# Altium integrated library NXP Semiconductors Automotive MOSFETs.IntLib: 540 symbols (part 6 of 16)
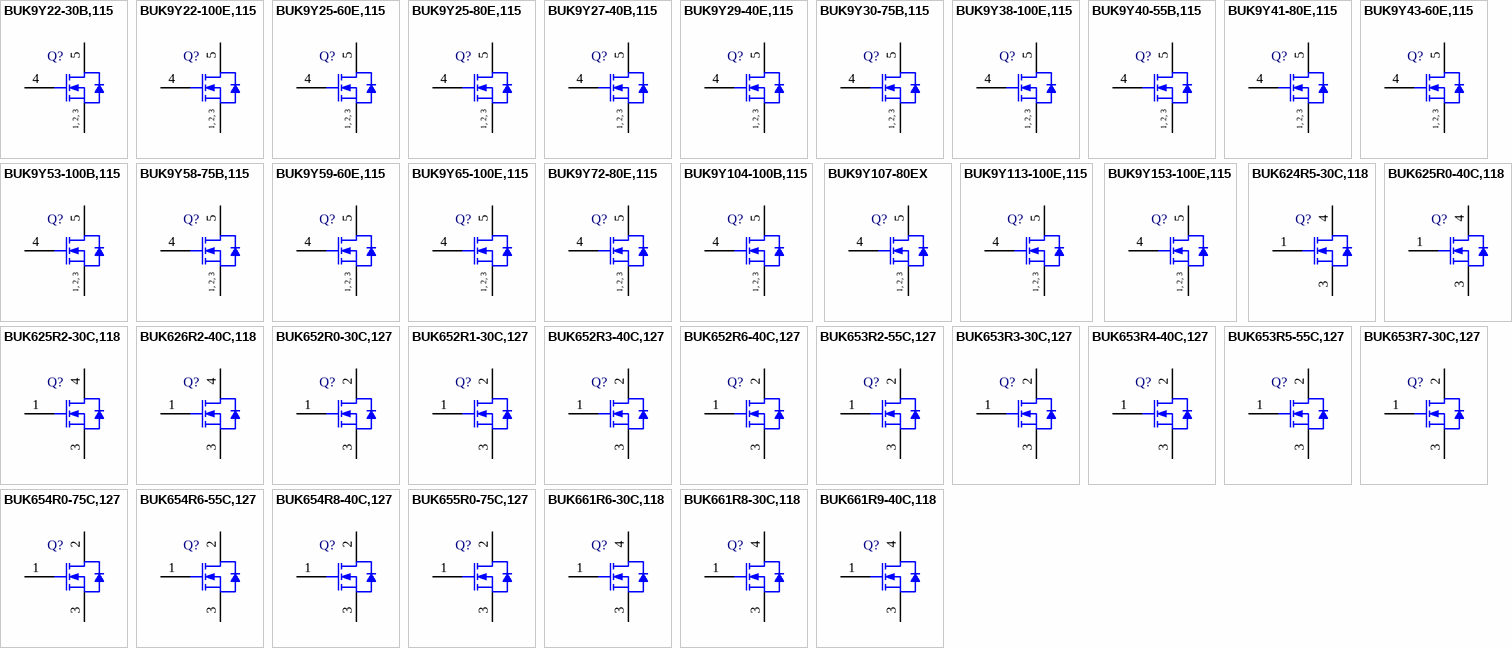
[diagram p19: symbols BUK9Y22-30B,115 to BUK661R9-40C,118]

## BUK9Y53-100B,115
designator Q?
N-Channel TrenchMOS Logic Level FET, 100 V, 23 A, 5-Pin SOT669, Tape and Reel; Manufacturer: NXP Semiconductors; PartNumber: BUK9Y53-100B,115; Automotive Qualified: Y; Channel Type: N; ID [max] (A): 23; IDM [max] (A): 94; Packing: Tape & Reel; Qr [typ] (nC): 83; VDS [max] (V): 100; VGSth [typ] (V): 1.5; DatasheetVersion: Rev. 01; PackageVersion: 13-02-27, 02/2013; PackageReference: SOT669; PackageDescription: 4-Pin Plastic Single-ended Surface Mounted Package, Body 4.9 x 3.95 mm, Pitch 1.27 mm; Supplier 1: Digi-Key; Supplier Part Number 1: 568-6238-2-ND; Supplier 2: Digi-Key; Supplier Part Number 2: 568-6238-1-ND; Supplier 3: Digi-Key; Supplier Part Number 3: 568-6238-6-ND; Supplier 4: Newark; Supplier Part Number 4: 79R1857; Supplier 5: Mouser; Supplier Part Number 5: 771-BUK9Y53-100B,115; Mounting Technology: Surface Mount; Code_JEDEC: MO-235; ComponentLink1Description: Manufacturer URL; ComponentLink1URL: http://www.nxp.com/; ComponentLink2Description: Datasheet; ComponentLink2URL: http://www.nxp.com/documents/data_sheet/BUK9Y53-100B.pdf; ComponentLink3Description: Package Specification; ComponentLink3URL: http://www.nxp.com/documents/outline_drawing/sot669_po.pdf
footprint NXP-SOT669_N (DPAK, 4-Leads, Body 5x4.1mm, Pitch 1.27mm, IPC Medium Density)
footprint NXP-SOT669_L (DPAK, 4-Leads, Body 5x4.1mm, Pitch 1.27mm, IPC High Density)
footprint NXP-SOT669_M (DPAK, 4-Leads, Body 5x4.1mm, Pitch 1.27mm, IPC Low Density)
pins: 1 S "source", 2 S "source", 3 S "source", 4 G "gate", 5 D "mounting base; connected to drain"
text: 1, 2, 3

## BUK9Y58-75B,115
designator Q?
N-Channel TrenchMOS Logic Level FET, 75 V, 20.73 A, 5-Pin SOT669, Tape and Reel; Manufacturer: NXP Semiconductors; PartNumber: BUK9Y58-75B,115; Automotive Qualified: Y; Channel Type: N; ID [max] (A): 20.73; IDM [max] (A): 82.9; Packing: Tape & Reel; Qr [typ] (nC): 122; VDS [max] (V): 75; VGSth [typ] (V): 1.65; DatasheetVersion: Rev. 04; PackageVersion: 13-02-27, 02/2013; PackageReference: SOT669; PackageDescription: 4-Pin Plastic Single-ended Surface Mounted Package, Body 4.9 x 3.95 mm, Pitch 1.27 mm; Supplier 1: Digi-Key; Supplier Part Number 1: 568-5529-2-ND; Supplier 2: Digi-Key; Supplier Part Number 2: 568-5529-1-ND; Supplier 3: Digi-Key; Supplier Part Number 3: 568-5529-6-ND; Supplier 4: Mouser; Supplier Part Number 4: 771-BUK9Y58-75B115; Mounting Technology: Surface Mount; Code_JEDEC: MO-235; ComponentLink1Description: Manufacturer URL; ComponentLink1URL: http://www.nxp.com/; ComponentLink2Description: Datasheet; ComponentLink2URL: http://www.nxp.com/documents/data_sheet/BUK9Y58-75B.pdf; ComponentLink3Description: Package Specification; ComponentLink3URL: http://www.nxp.com/documents/outline_drawing/sot669_po.pdf
footprint NXP-SOT669_N (DPAK, 4-Leads, Body 5x4.1mm, Pitch 1.27mm, IPC Medium Density)
footprint NXP-SOT669_L (DPAK, 4-Leads, Body 5x4.1mm, Pitch 1.27mm, IPC High Density)
footprint NXP-SOT669_M (DPAK, 4-Leads, Body 5x4.1mm, Pitch 1.27mm, IPC Low Density)
pins: 1 S "source", 2 S "source", 3 S "source", 4 G "gate", 5 D "mounting base; connected to drain"
text: 1, 2, 3

## BUK9Y59-60E,115
designator Q?
N-Channel Logic Level MOSFET, 60 V, 16.7 A, 5-Pin SOT669, Tape and Reel; Manufacturer: NXP Semiconductors; PartNumber: BUK9Y59-60E,115; Automotive Qualified: Y; Channel Type: N; ID [max] (A): 16.7; IDM [max] (A): 67; Packing: Tape & Reel; Qr [typ] (nC): 13; VDS [max] (V): 60; VGSth [typ] (V): 1.7; PackageVersion: 13-02-27, 02/2013; PackageReference: SOT669; PackageDescription: 4-Pin Plastic Single-ended Surface Mounted Package, Body 4.9 x 3.95 mm, Pitch 1.27 mm; Supplier 1: Digi-Key; Supplier Part Number 1: 568-11426-2-ND; Supplier 2: Digi-Key; Supplier Part Number 2: 568-11426-1-ND; Supplier 3: Digi-Key; Supplier Part Number 3: 568-11426-6-ND; Supplier 4: Mouser; Supplier Part Number 4: 771-BUK9Y59-60E115; Mounting Technology: Surface Mount; Code_JEDEC: MO-235; ComponentLink1Description: Manufacturer URL; ComponentLink1URL: http://www.nxp.com/; ComponentLink2Description: Datasheet; ComponentLink2URL: http://www.nxp.com/documents/data_sheet/BUK9Y59-60E.pdf; ComponentLink3Description: Package Specification; ComponentLink3URL: http://www.nxp.com/documents/outline_drawing/sot669_po.pdf
footprint NXP-SOT669_N (DPAK, 4-Leads, Body 5x4.1mm, Pitch 1.27mm, IPC Medium Density)
footprint NXP-SOT669_L (DPAK, 4-Leads, Body 5x4.1mm, Pitch 1.27mm, IPC High Density)
footprint NXP-SOT669_M (DPAK, 4-Leads, Body 5x4.1mm, Pitch 1.27mm, IPC Low Density)
pins: 1 S "source", 2 S "source", 3 S "source", 4 G "gate", 5 D "mounting base; connected to drain"
text: 1, 2, 3

## BUK9Y65-100E,115
designator Q?
N-Channel Logic Level MOSFET, 100 V, 19 A, 5-Pin SOT669, Tape and Reel; Manufacturer: NXP Semiconductors; PartNumber: BUK9Y65-100E,115; Automotive Qualified: Y; Channel Type: N; ID [max] (A): 19; IDM [max] (A): 76; Packing: Tape & Reel; Qr [typ] (nC): 33; VDS [max] (V): 100; VGSth [typ] (V): 1.7; PackageVersion: 13-02-27, 02/2013; PackageReference: SOT669; PackageDescription: 4-Pin Plastic Single-ended Surface Mounted Package, Body 4.9 x 3.95 mm, Pitch 1.27 mm; Supplier 1: Digi-Key; Supplier Part Number 1: 568-10280-2-ND; Supplier 2: Digi-Key; Supplier Part Number 2: 568-10280-1-ND; Supplier 3: Digi-Key; Supplier Part Number 3: 568-10280-6-ND; Supplier 4: Mouser; Supplier Part Number 4: 771-BUK9Y65-100E115; Mounting Technology: Surface Mount; Code_JEDEC: MO-235; ComponentLink1Description: Manufacturer URL; ComponentLink1URL: http://www.nxp.com/; ComponentLink2Description: Datasheet; ComponentLink2URL: http://www.nxp.com/documents/data_sheet/BUK9Y65-100E.pdf; ComponentLink3Description: Package Specification; ComponentLink3URL: http://www.nxp.com/documents/outline_drawing/sot669_po.pdf
footprint NXP-SOT669_N (DPAK, 4-Leads, Body 5x4.1mm, Pitch 1.27mm, IPC Medium Density)
footprint NXP-SOT669_L (DPAK, 4-Leads, Body 5x4.1mm, Pitch 1.27mm, IPC High Density)
footprint NXP-SOT669_M (DPAK, 4-Leads, Body 5x4.1mm, Pitch 1.27mm, IPC Low Density)
pins: 1 S "source", 2 S "source", 3 S "source", 4 G "gate", 5 D "mounting base; connected to drain"
text: 1, 2, 3

## BUK9Y72-80E,115
designator Q?
N-Channel Logic Level MOSFET, 80 V, 15 A, 5-Pin SOT669, Tape and Reel; Manufacturer: NXP Semiconductors; PartNumber: BUK9Y72-80E,115; Automotive Qualified: Y; Channel Type: N; ID [max] (A): 15; IDM [max] (A): 61; Packing: Tape & Reel; Qr [typ] (nC): 15.3; VDS [max] (V): 80; VGSth [typ] (V): 1.7; PackageVersion: 13-02-27, 02/2013; PackageReference: SOT669; PackageDescription: 4-Pin Plastic Single-ended Surface Mounted Package, Body 4.9 x 3.95 mm, Pitch 1.27 mm; Supplier 1: Digi-Key; Supplier Part Number 1: 568-11427-2-ND; Supplier 2: Digi-Key; Supplier Part Number 2: 568-11427-1-ND; Supplier 3: Digi-Key; Supplier Part Number 3: 568-11427-6-ND; Supplier 4: Mouser; Supplier Part Number 4: 771-BUK9Y72-80E115; Mounting Technology: Surface Mount; Code_JEDEC: MO-235; ComponentLink1Description: Manufacturer URL; ComponentLink1URL: http://www.nxp.com/; ComponentLink2Description: Datasheet; ComponentLink2URL: http://www.nxp.com/documents/data_sheet/BUK9Y72-80E.pdf; ComponentLink3Description: Package Specification; ComponentLink3URL: http://www.nxp.com/documents/outline_drawing/sot669_po.pdf
footprint NXP-SOT669_N (DPAK, 4-Leads, Body 5x4.1mm, Pitch 1.27mm, IPC Medium Density)
footprint NXP-SOT669_L (DPAK, 4-Leads, Body 5x4.1mm, Pitch 1.27mm, IPC High Density)
footprint NXP-SOT669_M (DPAK, 4-Leads, Body 5x4.1mm, Pitch 1.27mm, IPC Low Density)
pins: 1 S "source", 2 S "source", 3 S "source", 4 G "gate", 5 D "mounting base; connected to drain"
text: 1, 2, 3

## BUK9Y104-100B,115
designator Q?
N-Channel TrenchMOS Logic Level FET, 100 V, 14.8 A, 5-Pin SOT669, Tape and Reel; Manufacturer: NXP Semiconductors; PartNumber: BUK9Y104-100B,115; Automotive Qualified: Y; Channel Type: N; ID [max] (A): 14.8; IDM [max] (A): 59; Packing: Tape & Reel; Qr [typ] (nC): 190; VDS [max] (V): 100; VGSth [typ] (V): 1.65; DatasheetVersion: Rev. 04; PackageVersion: 13-02-27, 02/2013; PackageReference: SOT669; PackageDescription: 4-Pin Plastic Single-ended Surface Mounted Package, Body 4.9 x 3.95 mm, Pitch 1.27 mm; Supplier 1: Digi-Key; Supplier Part Number 1: 568-5524-2-ND; Supplier 2: Digi-Key; Supplier Part Number 2: 568-5524-1-ND; Supplier 3: Digi-Key; Supplier Part Number 3: 568-5524-6-ND; Supplier 4: Mouser; Supplier Part Number 4: 771-BUK9Y104-100B115; Mounting Technology: Surface Mount; Code_JEDEC: MO-235; ComponentLink1Description: Manufacturer URL; ComponentLink1URL: http://www.nxp.com/; ComponentLink2Description: Datasheet; ComponentLink2URL: http://www.nxp.com/documents/data_sheet/BUK9Y104-100B.pdf; ComponentLink3Description: Package Specification; ComponentLink3URL: http://www.nxp.com/documents/outline_drawing/sot669_po.pdf
footprint NXP-SOT669_N (DPAK, 4-Leads, Body 5x4.1mm, Pitch 1.27mm, IPC Medium Density)
footprint NXP-SOT669_L (DPAK, 4-Leads, Body 5x4.1mm, Pitch 1.27mm, IPC High Density)
footprint NXP-SOT669_M (DPAK, 4-Leads, Body 5x4.1mm, Pitch 1.27mm, IPC Low Density)
pins: 1 S "source", 2 S "source", 3 S "source", 4 G "gate", 5 D "mounting base; connected to drain"
text: 1, 2, 3

## BUK9Y107-80EX
designator Q?
N-Channel Logic Level MOSFET, 80 V, 11.8 A, 5-Pin SOT669, Tape and Reel; Manufacturer: NXP Semiconductors; PartNumber: BUK9Y107-80EX; Automotive Qualified: Y; Channel Type: N; ID [max] (A): 11.8; IDM [max] (A): 47; Packing: Tape & Reel; Qr [typ] (nC): 17.8; VDS [max] (V): 80; VGSth [typ] (V): 1.7; PackageVersion: 13-02-27, 02/2013; PackageReference: SOT669; PackageDescription: 4-Pin Plastic Single-ended Surface Mounted Package, Body 4.9 x 3.95 mm, Pitch 1.27 mm; Supplier 1: Digi-Key; Supplier Part Number 1: 568-10274-2-ND; Supplier 2: Digi-Key; Supplier Part Number 2: 568-10274-1-ND; Supplier 3: Digi-Key; Supplier Part Number 3: 568-10274-6-ND; Supplier 4: Mouser; Supplier Part Number 4: 771-BUK9Y107-80EX; Mounting Technology: Surface Mount; Code_JEDEC: MO-235; ComponentLink1Description: Manufacturer URL; ComponentLink1URL: http://www.nxp.com/; ComponentLink2Description: Datasheet; ComponentLink2URL: http://www.nxp.com/documents/data_sheet/BUK9Y107-80E.pdf; ComponentLink3Description: Package Specification; ComponentLink3URL: http://www.nxp.com/documents/outline_drawing/sot669_po.pdf
footprint NXP-SOT669_N (DPAK, 4-Leads, Body 5x4.1mm, Pitch 1.27mm, IPC Medium Density)
footprint NXP-SOT669_L (DPAK, 4-Leads, Body 5x4.1mm, Pitch 1.27mm, IPC High Density)
footprint NXP-SOT669_M (DPAK, 4-Leads, Body 5x4.1mm, Pitch 1.27mm, IPC Low Density)
pins: 1 S "source", 2 S "source", 3 S "source", 4 G "gate", 5 D "mounting base; connected to drain"
text: 1, 2, 3

## BUK9Y113-100E,115
designator Q?
N-Channel Logic Level MOSFET, 100 V, 12 A, 5-Pin SOT669, Tape and Reel; Manufacturer: NXP Semiconductors; PartNumber: BUK9Y113-100E,115; Automotive Qualified: Y; Channel Type: N; ID [max] (A): 12; IDM [max] (A): 48; Packing: Tape & Reel; Qr [typ] (nC): 29; VDS [max] (V): 100; VGSth [typ] (V): 1.7; PackageVersion: 13-02-27, 02/2013; PackageReference: SOT669; PackageDescription: 4-Pin Plastic Single-ended Surface Mounted Package, Body 4.9 x 3.95 mm, Pitch 1.27 mm; Supplier 1: Digi-Key; Supplier Part Number 1: 568-11545-2-ND; Supplier 2: Digi-Key; Supplier Part Number 2: 568-11545-1-ND; Supplier 3: Digi-Key; Supplier Part Number 3: 568-11545-6-ND; Supplier 4: Mouser; Supplier Part Number 4: 771-BUK9Y113-100E115; Mounting Technology: Surface Mount; Code_JEDEC: MO-235; ComponentLink1Description: Manufacturer URL; ComponentLink1URL: http://www.nxp.com/; ComponentLink2Description: Datasheet; ComponentLink2URL: http://www.nxp.com/documents/data_sheet/BUK9Y113-100E.pdf; ComponentLink3Description: Package Specification; ComponentLink3URL: http://www.nxp.com/documents/outline_drawing/sot669_po.pdf
footprint NXP-SOT669_N (DPAK, 4-Leads, Body 5x4.1mm, Pitch 1.27mm, IPC Medium Density)
footprint NXP-SOT669_L (DPAK, 4-Leads, Body 5x4.1mm, Pitch 1.27mm, IPC High Density)
footprint NXP-SOT669_M (DPAK, 4-Leads, Body 5x4.1mm, Pitch 1.27mm, IPC Low Density)
pins: 1 S "source", 2 S "source", 3 S "source", 4 G "gate", 5 D "mounting base; connected to drain"
text: 1, 2, 3

## BUK9Y153-100E,115
designator Q?
N-Channel Logic Level MOSFET, 100 V, 9.4 A, 5-Pin SOT669, Tape and Reel; Manufacturer: NXP Semiconductors; PartNumber: BUK9Y153-100E,115; Automotive Qualified: Y; Channel Type: N; ID [max] (A): 9.4; IDM [max] (A): 38; Packing: Tape & Reel; Qr [typ] (nC): 28; VDS [max] (V): 100; VGSth [typ] (V): 1.7; PackageVersion: 13-02-27, 02/2013; PackageReference: SOT669; PackageDescription: 4-Pin Plastic Single-ended Surface Mounted Package, Body 4.9 x 3.95 mm, Pitch 1.27 mm; Supplier 1: Digi-Key; Supplier Part Number 1: 568-10973-2-ND; Supplier 2: Digi-Key; Supplier Part Number 2: 568-10973-1-ND; Supplier 3: Digi-Key; Supplier Part Number 3: 568-10973-6-ND; Supplier 4: Mouser; Supplier Part Number 4: 771-BUK9Y153-100E115; Mounting Technology: Surface Mount; Code_JEDEC: MO-235; ComponentLink1Description: Manufacturer URL; ComponentLink1URL: http://www.nxp.com/; ComponentLink2Description: Datasheet; ComponentLink2URL: http://www.nxp.com/documents/data_sheet/BUK9Y153-100E.pdf; ComponentLink3Description: Package Specification; ComponentLink3URL: http://www.nxp.com/documents/outline_drawing/sot669_po.pdf
footprint NXP-SOT669_N (DPAK, 4-Leads, Body 5x4.1mm, Pitch 1.27mm, IPC Medium Density)
footprint NXP-SOT669_L (DPAK, 4-Leads, Body 5x4.1mm, Pitch 1.27mm, IPC High Density)
footprint NXP-SOT669_M (DPAK, 4-Leads, Body 5x4.1mm, Pitch 1.27mm, IPC Low Density)
pins: 1 S "source", 2 S "source", 3 S "source", 4 G "gate", 5 D "mounting base; connected to drain"
text: 1, 2, 3

## BUK624R5-30C,118
designator Q?
N-Channel TrenchMOS Intermediate Level FET, 30 V, 90 A, 3-Pin SOT428, Tape and Reel; Manufacturer: NXP Semiconductors; PartNumber: BUK624R5-30C,118; Automotive Qualified: Y; Channel Type: N; ID [max] (A): 90; IDM [max] (A): 543; Packing: Tape & Reel; Qr [typ] (nC): 57; VDS [max] (V): 30; VGSth [typ] (V): 2.3; DatasheetVersion: Rev. 2; PackageVersion: 14-06-10, 06/2014; PackageReference: SOT428; PackageDescription: 3-Pin Plastic Single-ended Surface Mounted Package, Body 6.1 x 6.6 mm, Pitch 2.285 mm; Supplier 1: Digi-Key; Supplier Part Number 1: 568-6991-2-ND; Supplier 2: Digi-Key; Supplier Part Number 2: 568-6991-1-ND; Supplier 3: Digi-Key; Supplier Part Number 3: 568-6991-6-ND; Supplier 4: Mouser; Supplier Part Number 4: 771-BUK624R530C118; Mounting Technology: Surface Mount; Code_JEITA: SC-63; Code_JEDEC: TO-252; ComponentLink1Description: Manufacturer URL; ComponentLink1URL: http://www.nxp.com/; ComponentLink2Description: Datasheet; ComponentLink2URL: http://www.nxp.com/documents/data_sheet/BUK624R5-30C.pdf; ComponentLink3Description: Package Specification; ComponentLink3URL: http://www.nxp.com/documents/outline_drawing/sot428_po.pdf
footprint NXP-SOT428_N (DPAK, 3-Leads, Body 6.75x6.22mm, Pitch 2.29mm, IPC Medium Density)
footprint NXP-SOT428_L (DPAK, 3-Leads, Body 6.75x6.22mm, Pitch 2.29mm, IPC High Density)
footprint NXP-SOT428_M (DPAK, 3-Leads, Body 6.75x6.22mm, Pitch 2.29mm, IPC Low Density)
pins: 1 G "gate", 3 S "source", 4 D "mounting base; connected to drain"

## BUK625R0-40C,118
designator Q?
N-Channel TrenchMOS Intermediate Level FET, 40 V, 90 A, 3-Pin SOT428, Tape and Reel; Manufacturer: NXP Semiconductors; PartNumber: BUK625R0-40C,118; Automotive Qualified: Y; Channel Type: N; ID [max] (A): 90; IDM [max] (A): 490; Packing: Tape & Reel; Qr [typ] (nC): 65; VDS [max] (V): 40; VGSth [typ] (V): 2.3; DatasheetVersion: Rev. 1; PackageVersion: 14-06-10, 06/2014; PackageReference: SOT428; PackageDescription: 3-Pin Plastic Single-ended Surface Mounted Package, Body 6.1 x 6.6 mm, Pitch 2.285 mm; Supplier 1: Digi-Key; Supplier Part Number 1: 568-6901-2-ND; Supplier 2: Digi-Key; Supplier Part Number 2: 568-6901-1-ND; Supplier 3: Digi-Key; Supplier Part Number 3: 568-6901-6-ND; Supplier 4: Mouser; Supplier Part Number 4: 771-BUK625R040C118; Mounting Technology: Surface Mount; Code_JEITA: SC-63; Code_JEDEC: TO-252; ComponentLink1Description: Manufacturer URL; ComponentLink1URL: http://www.nxp.com/; ComponentLink2Description: Datasheet; ComponentLink2URL: http://www.nxp.com/documents/data_sheet/BUK625R0-40C.pdf; ComponentLink3Description: Package Specification; ComponentLink3URL: http://www.nxp.com/documents/outline_drawing/sot428_po.pdf
footprint NXP-SOT428_N (DPAK, 3-Leads, Body 6.75x6.22mm, Pitch 2.29mm, IPC Medium Density)
footprint NXP-SOT428_L (DPAK, 3-Leads, Body 6.75x6.22mm, Pitch 2.29mm, IPC High Density)
footprint NXP-SOT428_M (DPAK, 3-Leads, Body 6.75x6.22mm, Pitch 2.29mm, IPC Low Density)
pins: 1 G "gate", 3 S "source", 4 D "mounting base; connected to drain"

## BUK625R2-30C,118
designator Q?
N-Channel TrenchMOS Intermediate Level FET, 30 V, 90 A, 3-Pin SOT428, Tape and Reel; Manufacturer: NXP Semiconductors; PartNumber: BUK625R2-30C,118; Automotive Qualified: Y; Channel Type: N; ID [max] (A): 90; IDM [max] (A): 455; Packing: Tape & Reel; Qr [typ] (nC): 61; VDS [max] (V): 30; VGSth [typ] (V): 2.3; DatasheetVersion: Rev. 1; PackageVersion: 14-06-10, 06/2014; PackageReference: SOT428; PackageDescription: 3-Pin Plastic Single-ended Surface Mounted Package, Body 6.1 x 6.6 mm, Pitch 2.285 mm; Supplier 1: Digi-Key; Supplier Part Number 1: 568-9625-2-ND; Supplier 2: Digi-Key; Supplier Part Number 2: 568-9625-1-ND; Supplier 3: Digi-Key; Supplier Part Number 3: 568-9625-6-ND; Supplier 4: Mouser; Supplier Part Number 4: 771-BUK625R2-30C118; Mounting Technology: Surface Mount; Code_JEITA: SC-63; Code_JEDEC: TO-252; ComponentLink1Description: Manufacturer URL; ComponentLink1URL: http://www.nxp.com/; ComponentLink2Description: Datasheet; ComponentLink2URL: http://www.nxp.com/documents/data_sheet/BUK625R2-30C.pdf; ComponentLink3Description: Package Specification; ComponentLink3URL: http://www.nxp.com/documents/outline_drawing/sot428_po.pdf
footprint NXP-SOT428_N (DPAK, 3-Leads, Body 6.75x6.22mm, Pitch 2.29mm, IPC Medium Density)
footprint NXP-SOT428_L (DPAK, 3-Leads, Body 6.75x6.22mm, Pitch 2.29mm, IPC High Density)
footprint NXP-SOT428_M (DPAK, 3-Leads, Body 6.75x6.22mm, Pitch 2.29mm, IPC Low Density)
pins: 1 G "gate", 3 S "source", 4 D "mounting base; connected to drain"

## BUK626R2-40C,118
designator Q?
N-Channel TrenchMOS Intermediate Level FET, 40 V, 90 A, 3-Pin SOT428, Tape and Reel; Manufacturer: NXP Semiconductors; PartNumber: BUK626R2-40C,118; Automotive Qualified: Y; Channel Type: N; ID [max] (A): 90; IDM [max] (A): 397; Packing: Tape & Reel; Qr [typ] (nC): 56; VDS [max] (V): 40; VGSth [typ] (V): 2.3; DatasheetVersion: Rev. 1; PackageVersion: 14-06-10, 06/2014; PackageReference: SOT428; PackageDescription: 3-Pin Plastic Single-ended Surface Mounted Package, Body 6.1 x 6.6 mm, Pitch 2.285 mm; Supplier 1: Digi-Key; Supplier Part Number 1: 568-9626-2-ND; Supplier 2: Digi-Key; Supplier Part Number 2: 568-9626-1-ND; Supplier 3: Digi-Key; Supplier Part Number 3: 568-9626-6-ND; Supplier 4: Mouser; Supplier Part Number 4: 771-BUK626R2-40C118; Mounting Technology: Surface Mount; Code_JEITA: SC-63; Code_JEDEC: TO-252; ComponentLink1Description: Manufacturer URL; ComponentLink1URL: http://www.nxp.com/; ComponentLink2Description: Datasheet; ComponentLink2URL: http://www.nxp.com/documents/data_sheet/BUK626R2-40C.pdf; ComponentLink3Description: Package Specification; ComponentLink3URL: http://www.nxp.com/documents/outline_drawing/sot428_po.pdf
footprint NXP-SOT428_N (DPAK, 3-Leads, Body 6.75x6.22mm, Pitch 2.29mm, IPC Medium Density)
footprint NXP-SOT428_L (DPAK, 3-Leads, Body 6.75x6.22mm, Pitch 2.29mm, IPC High Density)
footprint NXP-SOT428_M (DPAK, 3-Leads, Body 6.75x6.22mm, Pitch 2.29mm, IPC Low Density)
pins: 1 G "gate", 3 S "source", 4 D "mounting base; connected to drain"

## BUK652R0-30C,127
designator Q?
N-Channel TrenchMOS Intermediate Level FET, 30 V, 120 A, 3-Pin SOT78A, Rail; Manufacturer: NXP Semiconductors; PartNumber: BUK652R0-30C,127; Automotive Qualified: Y; Channel Type: N; ID [max] (A): 120; IDM [max] (A): 1082; Qr [typ] (nC): 138; VDS [max] (V): 30; VGSth [typ] (V): 2.3; DatasheetVersion: Rev. 01; PackageVersion: 05-03-14, 03/2005; PackageReference: SOT78A; PackageDescription: 3-Pin Flange Mount, Vertical Straight Lead, Body 10 x 4.3 mm, Pitch 2.54 mm; Supplier 1: Digi-Key; Supplier Part Number 1: 568-7490-5-ND; Supplier 2: Mouser; Supplier Part Number 2: 771-BUK652R030C127; Packing: Rail; Mounting Technology: Through Hole; Code_JEITA: SC-46; Code_JEDEC: 3-lead TO-220AB; ComponentLink1Description: Manufacturer URL; ComponentLink1URL: http://www.nxp.com/; ComponentLink2Description: Datasheet; ComponentLink2URL: http://www.nxp.com/documents/data_sheet/BUK652R0-30C.pdf; ComponentLink3Description: Package Specification; ComponentLink3URL: http://www.nxp.com/documents/outline_drawing/sot078a_po.pdf
footprint NXP-SOT78A (FM, 3-Leads, Body 10.3x4.5mm, Pitch 2.54mm)
pins: 1 G "gate", 2 D "drain", 3 S "source"

## BUK652R1-30C,127
designator Q?
N-Channel TrenchMOS Intermediate Level FET, 30 V, 120 A, 3-Pin SOT78A, Rail; Manufacturer: NXP Semiconductors; PartNumber: BUK652R1-30C,127; Automotive Qualified: Y; Channel Type: N; ID [max] (A): 120; IDM [max] (A): 960; Qr [typ] (nC): 115; VDS [max] (V): 30; DatasheetVersion: Rev. 02; PackageVersion: 05-03-14, 03/2005; PackageReference: SOT78A; PackageDescription: 3-Pin Flange Mount, Vertical Straight Lead, Body 10 x 4.3 mm, Pitch 2.54 mm; Supplier 1: Digi-Key; Supplier Part Number 1: 568-7491-5-ND; Supplier 2: Mouser; Supplier Part Number 2: 771-BUK652R130C127; Packing: Rail; Mounting Technology: Through Hole; Code_JEITA: SC-46; Code_JEDEC: 3-lead TO-220AB; ComponentLink1Description: Manufacturer URL; ComponentLink1URL: http://www.nxp.com/; ComponentLink2Description: Datasheet; ComponentLink2URL: http://www.nxp.com/documents/data_sheet/BUK652R1-30C.pdf; ComponentLink3Description: Package Specification; ComponentLink3URL: http://www.nxp.com/documents/outline_drawing/sot078a_po.pdf
footprint NXP-SOT78A (FM, 3-Leads, Body 10.3x4.5mm, Pitch 2.54mm)
pins: 1 G "gate", 2 D "drain", 3 S "source"

## BUK652R3-40C,127
designator Q?
N-Channel TrenchMOS Intermediate Level FET, 40 V, 120 A, 3-Pin SOT78A, Rail; Manufacturer: NXP Semiconductors; PartNumber: BUK652R3-40C,127; Automotive Qualified: Y; Channel Type: N; ID [max] (A): 120; IDM [max] (A): 1006; Qr [typ] (nC): 127; VDS [max] (V): 40; VGSth [typ] (V): 2.3; DatasheetVersion: Rev. 2; PackageVersion: 05-03-14, 03/2005; PackageReference: SOT78A; PackageDescription: 3-Pin Flange Mount, Vertical Straight Lead, Body 10 x 4.3 mm, Pitch 2.54 mm; Supplier 1: Digi-Key; Supplier Part Number 1: 568-7492-5-ND; Supplier 2: Mouser; Supplier Part Number 2: 771-BUK652R340C127; Packing: Rail; Mounting Technology: Through Hole; Code_JEITA: SC-46; Code_JEDEC: 3-lead TO-220AB; ComponentLink1Description: Manufacturer URL; ComponentLink1URL: http://www.nxp.com/; ComponentLink2Description: Datasheet; ComponentLink2URL: http://www.nxp.com/documents/data_sheet/BUK652R3-40C.pdf; ComponentLink3Description: Package Specification; ComponentLink3URL: http://www.nxp.com/documents/outline_drawing/sot078a_po.pdf
footprint NXP-SOT78A (FM, 3-Leads, Body 10.3x4.5mm, Pitch 2.54mm)
pins: 1 G "gate", 2 D "drain", 3 S "source"

## BUK652R6-40C,127
designator Q?
N-Channel TrenchMOS FET, 40 V, 120 A, 3-Pin SOT78A, Rail; Manufacturer: NXP Semiconductors; PartNumber: BUK652R6-40C,127; Automotive Qualified: Y; Channel Type: N; ID [max] (A): 120; IDM [max] (A): 878; Qr [typ] (nC): 104; VDS [max] (V): 40; VGSth [typ] (V): 2.3; DatasheetVersion: Rev. 02; PackageVersion: 05-03-14, 03/2005; PackageReference: SOT78A; PackageDescription: 3-Pin Flange Mount, Vertical Straight Lead, Body 10 x 4.3 mm, Pitch 2.54 mm; Supplier 1: Digi-Key; Supplier Part Number 1: 568-7493-5-ND; Supplier 2: Mouser; Supplier Part Number 2: 771-BUK652R640C127; Packing: Rail; Mounting Technology: Through Hole; Code_JEITA: SC-46; Code_JEDEC: 3-lead TO-220AB; ComponentLink1Description: Manufacturer URL; ComponentLink1URL: http://www.nxp.com/; ComponentLink2Description: Datasheet; ComponentLink2URL: http://www.nxp.com/documents/data_sheet/BUK652R6-40C.pdf; ComponentLink3Description: Package Specification; ComponentLink3URL: http://www.nxp.com/documents/outline_drawing/sot078a_po.pdf
footprint NXP-SOT78A (FM, 3-Leads, Body 10.3x4.5mm, Pitch 2.54mm)
pins: 1 G "gate", 2 D "drain", 3 S "source"

## BUK653R2-55C,127
designator Q?
N-Channel TrenchMOS Intermediate Level FET, 55 V, 120 A, 3-Pin SOT78A, Rail; Manufacturer: NXP Semiconductors; PartNumber: BUK653R2-55C,127; Automotive Qualified: Y; Channel Type: N; ID [max] (A): 120; IDM [max] (A): 861; Qr [typ] (nC): 176; VDS [max] (V): 55; VGSth [typ] (V): 2.3; DatasheetVersion: Rev. 01; PackageVersion: 05-03-14, 03/2005; PackageReference: SOT78A; PackageDescription: 3-Pin Flange Mount, Vertical Straight Lead, Body 10 x 4.3 mm, Pitch 2.54 mm; Supplier 1: Digi-Key; Supplier Part Number 1: 568-7495-5-ND; Supplier 2: Mouser; Supplier Part Number 2: 771-BUK653R255C127; Packing: Rail; Mounting Technology: Through Hole; Code_JEITA: SC-46; Code_JEDEC: 3-lead TO-220AB; ComponentLink1Description: Manufacturer URL; ComponentLink1URL: http://www.nxp.com/; ComponentLink2Description: Datasheet; ComponentLink2URL: http://www.nxp.com/documents/data_sheet/BUK653R2-55C.pdf; ComponentLink3Description: Package Specification; ComponentLink3URL: http://www.nxp.com/documents/outline_drawing/sot078a_po.pdf
footprint NXP-SOT78A (FM, 3-Leads, Body 10.3x4.5mm, Pitch 2.54mm)
pins: 1 G "gate", 2 D "drain", 3 S "source"

## BUK653R3-30C,127
designator Q?
N-Channel TrenchMOS Intermediate Level FET, 30 V, 100 A, 3-Pin SOT78A, Rail; Manufacturer: NXP Semiconductors; PartNumber: BUK653R3-30C,127; Automotive Qualified: Y; Channel Type: N; ID [max] (A): 100; IDM [max] (A): 721; Qr [typ] (nC): 73; VDS [max] (V): 30; VGSth [typ] (V): 2.3; DatasheetVersion: Rev. 1; PackageVersion: 05-03-14, 03/2005; PackageReference: SOT78A; PackageDescription: 3-Pin Flange Mount, Vertical Straight Lead, Body 10 x 4.3 mm, Pitch 2.54 mm; Supplier 1: Digi-Key; Supplier Part Number 1: BUK653R3-30C,127-ND; Supplier 2: Mouser; Supplier Part Number 2: 771-BUK653R3-30C127; Packing: Rail; Mounting Technology: Through Hole; Code_JEITA: SC-46; Code_JEDEC: 3-lead TO-220AB; ComponentLink1Description: Manufacturer URL; ComponentLink1URL: http://www.nxp.com/; ComponentLink2Description: Datasheet; ComponentLink2URL: http://www.nxp.com/documents/data_sheet/BUK653R3-30C.pdf; ComponentLink3Description: Package Specification; ComponentLink3URL: http://www.nxp.com/documents/outline_drawing/sot078a_po.pdf
footprint NXP-SOT78A (FM, 3-Leads, Body 10.3x4.5mm, Pitch 2.54mm)
pins: 1 G "gate", 2 D "drain", 3 S "source"

## BUK653R4-40C,127
designator Q?
N-Channel TrenchMOS Intermediate Level FET, 40 V, 100 A, 3-Pin SOT78A, Rail; Manufacturer: NXP Semiconductors; PartNumber: BUK653R4-40C,127; Automotive Qualified: Y; Channel Type: N; ID [max] (A): 100; IDM [max] (A): 657; Qr [typ] (nC): 82; VDS [max] (V): 40; VGSth [typ] (V): 2.3; DatasheetVersion: Rev. 02; PackageVersion: 05-03-14, 03/2005; PackageReference: SOT78A; PackageDescription: 3-Pin Flange Mount, Vertical Straight Lead, Body 10 x 4.3 mm, Pitch 2.54 mm; Supplier 1: Digi-Key; Supplier Part Number 1: 568-7496-5-ND; Supplier 2: Mouser; Supplier Part Number 2: 771-BUK653R440C127; Packing: Rail; Mounting Technology: Through Hole; Code_JEITA: SC-46; Code_JEDEC: 3-lead TO-220AB; ComponentLink1Description: Manufacturer URL; ComponentLink1URL: http://www.nxp.com/; ComponentLink2Description: Datasheet; ComponentLink2URL: http://www.nxp.com/documents/data_sheet/BUK653R4-40C.pdf; ComponentLink3Description: Package Specification; ComponentLink3URL: http://www.nxp.com/documents/outline_drawing/sot078a_po.pdf
footprint NXP-SOT78A (FM, 3-Leads, Body 10.3x4.5mm, Pitch 2.54mm)
pins: 1 G "gate", 2 D "drain", 3 S "source"

## BUK653R5-55C,127
designator Q?
N-Channel TrenchMOS Intermediate Level FET, 55 V, 120 A, 3-Pin SOT78A, Rail; Manufacturer: NXP Semiconductors; PartNumber: BUK653R5-55C,127; Automotive Qualified: Y; Channel Type: N; ID [max] (A): 120; IDM [max] (A): 700; Qr [typ] (nC): 148; VDS [max] (V): 55; VGSth [typ] (V): 2.3; DatasheetVersion: Rev. 1; PackageVersion: 05-03-14, 03/2005; PackageReference: SOT78A; PackageDescription: 3-Pin Flange Mount, Vertical Straight Lead, Body 10 x 4.3 mm, Pitch 2.54 mm; Supplier 1: Digi-Key; Supplier Part Number 1: 568-7497-5-ND; Supplier 2: Mouser; Supplier Part Number 2: 771-BUK653R555C127; Packing: Rail; Mounting Technology: Through Hole; Code_JEITA: SC-46; Code_JEDEC: 3-lead TO-220AB; ComponentLink1Description: Manufacturer URL; ComponentLink1URL: http://www.nxp.com/; ComponentLink2Description: Datasheet; ComponentLink2URL: http://www.nxp.com/documents/data_sheet/BUK653R5-55C.pdf; ComponentLink3Description: Package Specification; ComponentLink3URL: http://www.nxp.com/documents/outline_drawing/sot078a_po.pdf
footprint NXP-SOT78A (FM, 3-Leads, Body 10.3x4.5mm, Pitch 2.54mm)
pins: 1 G "gate", 2 D "drain", 3 S "source"

## BUK653R7-30C,127
designator Q?
N-Channel TrenchMOS Intermediate Level FET, 30 V, 100 A, 3-Pin SOT78A, Rail; Manufacturer: NXP Semiconductors; PartNumber: BUK653R7-30C,127; Automotive Qualified: Y; Channel Type: N; ID [max] (A): 100; IDM [max] (A): 583; Qr [typ] (nC): 57; VDS [max] (V): 30; VGSth [typ] (V): 2.3; DatasheetVersion: Rev. 3; PackageVersion: 05-03-14, 03/2005; PackageReference: SOT78A; PackageDescription: 3-Pin Flange Mount, Vertical Straight Lead, Body 10 x 4.3 mm, Pitch 2.54 mm; Supplier 1: Digi-Key; Supplier Part Number 1: 568-7498-5-ND; Supplier 2: Mouser; Supplier Part Number 2: 771-BUK653R730C127; Packing: Rail; Mounting Technology: Through Hole; Code_JEITA: SC-46; Code_JEDEC: 3-lead TO-220AB; ComponentLink1Description: Manufacturer URL; ComponentLink1URL: http://www.nxp.com/; ComponentLink2Description: Datasheet; ComponentLink2URL: http://www.nxp.com/documents/data_sheet/BUK653R7-30C.pdf; ComponentLink3Description: Package Specification; ComponentLink3URL: http://www.nxp.com/documents/outline_drawing/sot078a_po.pdf
footprint NXP-SOT78A (FM, 3-Leads, Body 10.3x4.5mm, Pitch 2.54mm)
pins: 1 G "gate", 2 D "drain", 3 S "source"

## BUK654R0-75C,127
designator Q?
N-Channel TrenchMOS FET, 75 V, 120 A, 3-Pin SOT78A, Rail; Manufacturer: NXP Semiconductors; PartNumber: BUK654R0-75C,127; Automotive Qualified: Y; Channel Type: N; ID [max] (A): 120; IDM [max] (A): 670; Qr [typ] (nC): 218; VDS [max] (V): 75; VGSth [typ] (V): 2.3; DatasheetVersion: Rev. 03; PackageVersion: 05-03-14, 03/2005; PackageReference: SOT78A; PackageDescription: 3-Pin Flange Mount, Vertical Straight Lead, Body 10 x 4.3 mm, Pitch 2.54 mm; Supplier 1: Digi-Key; Supplier Part Number 1: 568-7499-5-ND; Supplier 2: Mouser; Supplier Part Number 2: 771-BUK654R075C127; Packing: Rail; Mounting Technology: Through Hole; Code_JEITA: SC-46; Code_JEDEC: 3-lead TO-220AB; ComponentLink1Description: Manufacturer URL; ComponentLink1URL: http://www.nxp.com/; ComponentLink2Description: Datasheet; ComponentLink2URL: http://www.nxp.com/documents/data_sheet/BUK654R0-75C.pdf; ComponentLink3Description: Package Specification; ComponentLink3URL: http://www.nxp.com/documents/outline_drawing/sot078a_po.pdf
footprint NXP-SOT78A (FM, 3-Leads, Body 10.3x4.5mm, Pitch 2.54mm)
pins: 1 G "gate", 2 D "drain", 3 S "source"

## BUK654R6-55C,127
designator Q?
N-Channel TrenchMOS Intermediate Level FET, 55 V, 100 A, 3-Pin SOT78A, Rail; Manufacturer: NXP Semiconductors; PartNumber: BUK654R6-55C,127; Automotive Qualified: Y; Channel Type: N; ID [max] (A): 100; IDM [max] (A): 524; Qr [typ] (nC): 112; VDS [max] (V): 55; VGSth [typ] (V): 2.3; DatasheetVersion: Rev. 02; PackageVersion: 05-03-14, 03/2005; PackageReference: SOT78A; PackageDescription: 3-Pin Flange Mount, Vertical Straight Lead, Body 10 x 4.3 mm, Pitch 2.54 mm; Supplier 1: Digi-Key; Supplier Part Number 1: 568-7500-5-ND; Supplier 2: Mouser; Supplier Part Number 2: 771-BUK654R655C127; Packing: Rail; Mounting Technology: Through Hole; Code_JEITA: SC-46; Code_JEDEC: 3-lead TO-220AB; ComponentLink1Description: Manufacturer URL; ComponentLink1URL: http://www.nxp.com/; ComponentLink2Description: Datasheet; ComponentLink2URL: http://www.nxp.com/documents/data_sheet/BUK654R6-55C.pdf; ComponentLink3Description: Package Specification; ComponentLink3URL: http://www.nxp.com/documents/outline_drawing/sot078a_po.pdf
footprint NXP-SOT78A (FM, 3-Leads, Body 10.3x4.5mm, Pitch 2.54mm)
pins: 1 G "gate", 2 D "drain", 3 S "source"

## BUK654R8-40C,127
designator Q?
N-Channel TrenchMOS Intermediate Level FET, 40 V, 100 A, 3-Pin SOT78A, Rail; Manufacturer: NXP Semiconductors; PartNumber: BUK654R8-40C,127; Automotive Qualified: Y; Channel Type: N; ID [max] (A): 100; IDM [max] (A): 500; Qr [typ] (nC): 65; VDS [max] (V): 40; VGSth [typ] (V): 2.3; DatasheetVersion: Rev. 03; PackageVersion: 05-03-14, 03/2005; PackageReference: SOT78A; PackageDescription: 3-Pin Flange Mount, Vertical Straight Lead, Body 10 x 4.3 mm, Pitch 2.54 mm; Supplier 1: Digi-Key; Supplier Part Number 1: 568-7501-5-ND; Supplier 2: Mouser; Supplier Part Number 2: 771-BUK654R840C127; Packing: Rail; Mounting Technology: Through Hole; Code_JEITA: SC-46; Code_JEDEC: 3-lead TO-220AB; ComponentLink1Description: Manufacturer URL; ComponentLink1URL: http://www.nxp.com/; ComponentLink2Description: Datasheet; ComponentLink2URL: http://www.nxp.com/documents/data_sheet/BUK654R8-40C.pdf; ComponentLink3Description: Package Specification; ComponentLink3URL: http://www.nxp.com/documents/outline_drawing/sot078a_po.pdf
footprint NXP-SOT78A (FM, 3-Leads, Body 10.3x4.5mm, Pitch 2.54mm)
pins: 1 G "gate", 2 D "drain", 3 S "source"

## BUK655R0-75C,127
designator Q?
N-Channel TrenchMOS FET, 75 V, 120 A, 3-Pin SOT78A, Rail; Manufacturer: NXP Semiconductors; PartNumber: BUK655R0-75C,127; Automotive Qualified: Y; Channel Type: N; ID [max] (A): 120; IDM [max] (A): 553; Qr [typ] (nC): 153; VDS [max] (V): 75; VGSth [typ] (V): 2.3; DatasheetVersion: Rev. 02; PackageVersion: 05-03-14, 03/2005; PackageReference: SOT78A; PackageDescription: 3-Pin Flange Mount, Vertical Straight Lead, Body 10 x 4.3 mm, Pitch 2.54 mm; Supplier 1: Digi-Key; Supplier Part Number 1: 568-7502-5-ND; Supplier 2: Newark; Supplier Part Number 2: 24T6229; Supplier 3: Mouser; Supplier Part Number 3: 771-BUK655R075C127; Packing: Rail; Mounting Technology: Through Hole; Code_JEITA: SC-46; Code_JEDEC: 3-lead TO-220AB; ComponentLink1Description: Manufacturer URL; ComponentLink1URL: http://www.nxp.com/; ComponentLink2Description: Datasheet; ComponentLink2URL: http://www.nxp.com/documents/data_sheet/BUK655R0-75C.pdf; ComponentLink3Description: Package Specification; ComponentLink3URL: http://www.nxp.com/documents/outline_drawing/sot078a_po.pdf
footprint NXP-SOT78A (FM, 3-Leads, Body 10.3x4.5mm, Pitch 2.54mm)
pins: 1 G "gate", 2 D "drain", 3 S "source"

## BUK661R6-30C,118
designator Q?
N-Channel TrenchMOS Intermediate Level FET, 30 V, 120 A, 3-Pin SOT404, Tape and Reel; Manufacturer: NXP Semiconductors; PartNumber: BUK661R6-30C,118; Automotive Qualified: Y; Channel Type: N; ID [max] (A): 120; IDM [max] (A): 1310; Packing: Tape & Reel; Qr [typ] (nC): 0.138; VDS [max] (V): 30; VGSth [typ] (V): 2.3; DatasheetVersion: Rev. 01; PackageVersion: 13-02-25, 02/2013; PackageReference: SOT404; PackageDescription: 3-Pin Plastic Single-ended Surface Mounted Package, Body 10 x 9.6 mm, Pitch 2.54 mm; Supplier 1: Digi-Key; Supplier Part Number 1: 568-6995-2-ND; Supplier 2: Digi-Key; Supplier Part Number 2: 568-6995-1-ND; Supplier 3: Digi-Key; Supplier Part Number 3: 568-6995-6-ND; Supplier 4: Mouser; Supplier Part Number 4: 771-BUK661R630C118; Mounting Technology: Surface Mount; ComponentLink1Description: Manufacturer URL; ComponentLink1URL: http://www.nxp.com/; ComponentLink2Description: Datasheet; ComponentLink2URL: http://www.nxp.com/documents/data_sheet/BUK661R6-30C.pdf; ComponentLink3Description: Package Specification; ComponentLink3URL: http://www.nxp.com/documents/outline_drawing/sot404_po.pdf
footprint NXP-SOT404_N (DPAK, 3-Leads, Body 10.3x9.8mm, Pitch 2.54mm, IPC Medium Density)
footprint NXP-SOT404_L (DPAK, 3-Leads, Body 10.3x9.8mm, Pitch 2.54mm, IPC High Density)
footprint NXP-SOT404_M (DPAK, 3-Leads, Body 10.3x9.8mm, Pitch 2.54mm, IPC Low Density)
pins: 1 G "gate", 3 S "source", 4 D "mounting base; connected to drain"

## BUK661R8-30C,118
designator Q?
N-Channel TrenchMOS Intermediate Level FET, 30 V, 120 A, 3-Pin SOT404, Tape and Reel; Manufacturer: NXP Semiconductors; PartNumber: BUK661R8-30C,118; Automotive Qualified: Y; Channel Type: N; ID [max] (A): 120; IDM [max] (A): 1080; Packing: Tape & Reel; Qr [typ] (nC): 115; VDS [max] (V): 30; VGSth [typ] (V): 2.3; DatasheetVersion: Rev. 2.1; PackageVersion: 13-02-25, 02/2013; PackageReference: SOT404; PackageDescription: 3-Pin Plastic Single-ended Surface Mounted Package, Body 10 x 9.6 mm, Pitch 2.54 mm; Supplier 1: Digi-Key; Supplier Part Number 1: 568-6996-2-ND; Supplier 2: Digi-Key; Supplier Part Number 2: 568-6996-1-ND; Supplier 3: Digi-Key; Supplier Part Number 3: 568-6996-6-ND; Supplier 4: Mouser; Supplier Part Number 4: 771-BUK661R830C118; Mounting Technology: Surface Mount; ComponentLink1Description: Manufacturer URL; ComponentLink1URL: http://www.nxp.com/; ComponentLink2Description: Datasheet; ComponentLink2URL: http://www.nxp.com/documents/data_sheet/BUK661R8-30C.pdf; ComponentLink3Description: Package Specification; ComponentLink3URL: http://www.nxp.com/documents/outline_drawing/sot404_po.pdf
footprint NXP-SOT404_N (DPAK, 3-Leads, Body 10.3x9.8mm, Pitch 2.54mm, IPC Medium Density)
footprint NXP-SOT404_L (DPAK, 3-Leads, Body 10.3x9.8mm, Pitch 2.54mm, IPC High Density)
footprint NXP-SOT404_M (DPAK, 3-Leads, Body 10.3x9.8mm, Pitch 2.54mm, IPC Low Density)
pins: 1 G "gate", 3 S "source", 4 D "mounting base; connected to drain"

## BUK661R9-40C,118
designator Q?
N-Channel TrenchMOS Intermediate Level FET, 40 V, 120 A, 3-Pin SOT404, Tape and Reel; Manufacturer: NXP Semiconductors; PartNumber: BUK661R9-40C,118; Automotive Qualified: Y; Channel Type: N; ID [max] (A): 120; IDM [max] (A): 1107; Packing: Tape & Reel; Qr [typ] (nC): 127; VDS [max] (V): 40; VGSth [typ] (V): 2.3; DatasheetVersion: Rev. 1; PackageVersion: 13-02-25, 02/2013; PackageReference: SOT404; PackageDescription: 3-Pin Plastic Single-ended Surface Mounted Package, Body 10 x 9.6 mm, Pitch 2.54 mm; Supplier 1: Digi-Key; Supplier Part Number 1: 568-6997-2-ND; Supplier 2: Digi-Key; Supplier Part Number 2: 568-6997-1-ND; Supplier 3: Digi-Key; Supplier Part Number 3: 568-6997-6-ND; Supplier 4: Mouser; Supplier Part Number 4: 771-BUK661R940C118; Mounting Technology: Surface Mount; ComponentLink1Description: Manufacturer URL; ComponentLink1URL: http://www.nxp.com/; ComponentLink2Description: Datasheet; ComponentLink2URL: http://www.nxp.com/documents/data_sheet/BUK661R9-40C.pdf; ComponentLink3Description: Package Specification; ComponentLink3URL: http://www.nxp.com/documents/outline_drawing/sot404_po.pdf
footprint NXP-SOT404_N (DPAK, 3-Leads, Body 10.3x9.8mm, Pitch 2.54mm, IPC Medium Density)
footprint NXP-SOT404_L (DPAK, 3-Leads, Body 10.3x9.8mm, Pitch 2.54mm, IPC High Density)
footprint NXP-SOT404_M (DPAK, 3-Leads, Body 10.3x9.8mm, Pitch 2.54mm, IPC Low Density)
pins: 1 G "gate", 3 S "source", 4 D "mounting base; connected to drain"

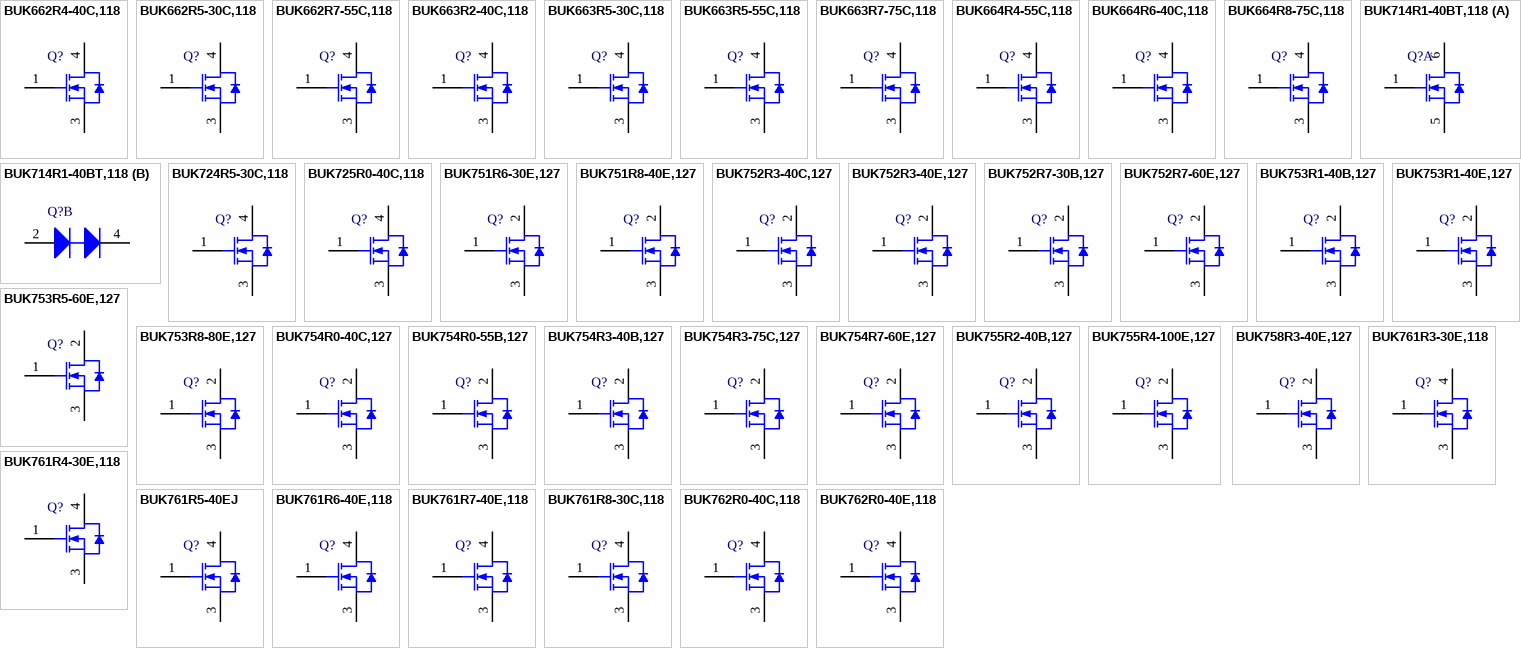
[diagram p6: symbols BUK662R4-40C,118 to BUK762R0-40E,118]

## BUK662R4-40C,118
designator Q?
N-Channel TrenchMOS FET, 40 V, 120 A, 3-Pin SOT404, Tape and Reel; Manufacturer: NXP Semiconductors; PartNumber: BUK662R4-40C,118; Automotive Qualified: Y; Channel Type: N; ID [max] (A): 120; IDM [max] (A): 914; Packing: Tape & Reel; Qr [typ] (nC): 104; VDS [max] (V): 40; VGSth [typ] (V): 2.3; DatasheetVersion: Rev. 2; PackageVersion: 13-02-25, 02/2013; PackageReference: SOT404; PackageDescription: 3-Pin Plastic Single-ended Surface Mounted Package, Body 10 x 9.6 mm, Pitch 2.54 mm; Supplier 1: Digi-Key; Supplier Part Number 1: 568-6998-2-ND; Supplier 2: Digi-Key; Supplier Part Number 2: 568-6998-1-ND; Supplier 3: Digi-Key; Supplier Part Number 3: 568-6998-6-ND; Supplier 4: Mouser; Supplier Part Number 4: 771-BUK662R440C118; Mounting Technology: Surface Mount; ComponentLink1Description: Manufacturer URL; ComponentLink1URL: http://www.nxp.com/; ComponentLink2Description: Datasheet; ComponentLink2URL: http://www.nxp.com/documents/data_sheet/BUK662R4-40C.pdf; ComponentLink3Description: Package Specification; ComponentLink3URL: http://www.nxp.com/documents/outline_drawing/sot404_po.pdf
footprint NXP-SOT404_N (DPAK, 3-Leads, Body 10.3x9.8mm, Pitch 2.54mm, IPC Medium Density)
footprint NXP-SOT404_L (DPAK, 3-Leads, Body 10.3x9.8mm, Pitch 2.54mm, IPC High Density)
footprint NXP-SOT404_M (DPAK, 3-Leads, Body 10.3x9.8mm, Pitch 2.54mm, IPC Low Density)
pins: 1 G "gate", 3 S "source", 4 D "mounting base; connected to drain"

## BUK662R5-30C,118
designator Q?
N-Channel TrenchMOS Intermediate Level FET, 30 V, 100 A, 3-Pin SOT404, Tape and Reel; Manufacturer: NXP Semiconductors; PartNumber: BUK662R5-30C,118; Automotive Qualified: Y; Channel Type: N; ID [max] (A): 100; IDM [max] (A): 783; Packing: Tape & Reel; Qr [typ] (nC): 73; VDS [max] (V): 30; VGSth [typ] (V): 2.3; DatasheetVersion: Rev. 2; PackageVersion: 13-02-25, 02/2013; PackageReference: SOT404; PackageDescription: 3-Pin Plastic Single-ended Surface Mounted Package, Body 10 x 9.6 mm, Pitch 2.54 mm; Supplier 1: Digi-Key; Supplier Part Number 1: 568-6999-2-ND; Supplier 2: Digi-Key; Supplier Part Number 2: 568-6999-1-ND; Supplier 3: Digi-Key; Supplier Part Number 3: 568-6999-6-ND; Supplier 4: Mouser; Supplier Part Number 4: 771-BUK662R530C118; Mounting Technology: Surface Mount; ComponentLink1Description: Manufacturer URL; ComponentLink1URL: http://www.nxp.com/; ComponentLink2Description: Datasheet; ComponentLink2URL: http://www.nxp.com/documents/data_sheet/BUK662R5-30C.pdf; ComponentLink3Description: Package Specification; ComponentLink3URL: http://www.nxp.com/documents/outline_drawing/sot404_po.pdf
footprint NXP-SOT404_N (DPAK, 3-Leads, Body 10.3x9.8mm, Pitch 2.54mm, IPC Medium Density)
footprint NXP-SOT404_L (DPAK, 3-Leads, Body 10.3x9.8mm, Pitch 2.54mm, IPC High Density)
footprint NXP-SOT404_M (DPAK, 3-Leads, Body 10.3x9.8mm, Pitch 2.54mm, IPC Low Density)
pins: 1 G "gate", 3 S "source", 4 D "mounting base; connected to drain"

## BUK662R7-55C,118
designator Q?
N-Channel TrenchMOS Intermediate Level FET, 55 V, 120 A, 3-Pin SOT404, Tape and Reel; Manufacturer: NXP Semiconductors; PartNumber: BUK662R7-55C,118; Automotive Qualified: Y; Channel Type: N; ID [max] (A): 120; IDM [max] (A): 907; Packing: Tape & Reel; Qr [typ] (nC): 176; VDS [max] (V): 55; VGSth [typ] (V): 2.3; DatasheetVersion: Rev. 01; PackageVersion: 13-02-25, 02/2013; PackageReference: SOT404; PackageDescription: 3-Pin Plastic Single-ended Surface Mounted Package, Body 10 x 9.6 mm, Pitch 2.54 mm; Supplier 1: Digi-Key; Supplier Part Number 1: 568-6900-2-ND; Supplier 2: Digi-Key; Supplier Part Number 2: 568-6900-1-ND; Supplier 3: Digi-Key; Supplier Part Number 3: 568-6900-6-ND; Supplier 4: Mouser; Supplier Part Number 4: 771-BUK662R755C118; Mounting Technology: Surface Mount; ComponentLink1Description: Manufacturer URL; ComponentLink1URL: http://www.nxp.com/; ComponentLink2Description: Datasheet; ComponentLink2URL: http://www.nxp.com/documents/data_sheet/BUK662R7-55C.pdf; ComponentLink3Description: Package Specification; ComponentLink3URL: http://www.nxp.com/documents/outline_drawing/sot404_po.pdf
footprint NXP-SOT404_N (DPAK, 3-Leads, Body 10.3x9.8mm, Pitch 2.54mm, IPC Medium Density)
footprint NXP-SOT404_L (DPAK, 3-Leads, Body 10.3x9.8mm, Pitch 2.54mm, IPC High Density)
footprint NXP-SOT404_M (DPAK, 3-Leads, Body 10.3x9.8mm, Pitch 2.54mm, IPC Low Density)
pins: 1 G "gate", 3 S "source", 4 D "mounting base; connected to drain"

## BUK663R2-40C,118
designator Q?
N-Channel TrenchMOS Intermediate Level FET, 40 V, 100 A, 3-Pin SOT404, Tape and Reel; Manufacturer: NXP Semiconductors; PartNumber: BUK663R2-40C,118; Automotive Qualified: Y; Channel Type: N; ID [max] (A): 100; IDM [max] (A): 697; Packing: Tape & Reel; Qr [typ] (nC): 82; VDS [max] (V): 40; VGSth [typ] (V): 2.3; DatasheetVersion: Rev. 2; PackageVersion: 13-02-25, 02/2013; PackageReference: SOT404; PackageDescription: 3-Pin Plastic Single-ended Surface Mounted Package, Body 10 x 9.6 mm, Pitch 2.54 mm; Supplier 1: Digi-Key; Supplier Part Number 1: 568-7000-2-ND; Supplier 2: Digi-Key; Supplier Part Number 2: 568-7000-1-ND; Supplier 3: Digi-Key; Supplier Part Number 3: 568-7000-6-ND; Supplier 4: Mouser; Supplier Part Number 4: 771-BUK663R240C118; Mounting Technology: Surface Mount; ComponentLink1Description: Manufacturer URL; ComponentLink1URL: http://www.nxp.com/; ComponentLink2Description: Datasheet; ComponentLink2URL: http://www.nxp.com/documents/data_sheet/BUK663R2-40C.pdf; ComponentLink3Description: Package Specification; ComponentLink3URL: http://www.nxp.com/documents/outline_drawing/sot404_po.pdf
footprint NXP-SOT404_N (DPAK, 3-Leads, Body 10.3x9.8mm, Pitch 2.54mm, IPC Medium Density)
footprint NXP-SOT404_L (DPAK, 3-Leads, Body 10.3x9.8mm, Pitch 2.54mm, IPC High Density)
footprint NXP-SOT404_M (DPAK, 3-Leads, Body 10.3x9.8mm, Pitch 2.54mm, IPC Low Density)
pins: 1 G "gate", 3 S "source", 4 D "mounting base; connected to drain"

## BUK663R5-30C,118
designator Q?
N-Channel TrenchMOS Intermediate Level FET, 30 V, 100 A, 3-Pin SOT404, Tape and Reel; Manufacturer: NXP Semiconductors; PartNumber: BUK663R5-30C,118; Automotive Qualified: Y; Channel Type: N; ID [max] (A): 100; IDM [max] (A): 616; Packing: Tape & Reel; Qr [typ] (nC): 57; VDS [max] (V): 30; VGSth [typ] (V): 2.3; DatasheetVersion: Rev. 02; PackageVersion: 13-02-25, 02/2013; PackageReference: SOT404; PackageDescription: 3-Pin Plastic Single-ended Surface Mounted Package, Body 10 x 9.6 mm, Pitch 2.54 mm; Supplier 1: Digi-Key; Supplier Part Number 1: 568-7001-2-ND; Supplier 2: Digi-Key; Supplier Part Number 2: 568-7001-1-ND; Supplier 3: Digi-Key; Supplier Part Number 3: 568-7001-6-ND; Supplier 4: Mouser; Supplier Part Number 4: 771-BUK663R530C118; Mounting Technology: Surface Mount; ComponentLink1Description: Manufacturer URL; ComponentLink1URL: http://www.nxp.com/; ComponentLink2Description: Datasheet; ComponentLink2URL: http://www.nxp.com/documents/data_sheet/BUK663R5-30C.pdf; ComponentLink3Description: Package Specification; ComponentLink3URL: http://www.nxp.com/documents/outline_drawing/sot404_po.pdf
footprint NXP-SOT404_N (DPAK, 3-Leads, Body 10.3x9.8mm, Pitch 2.54mm, IPC Medium Density)
footprint NXP-SOT404_L (DPAK, 3-Leads, Body 10.3x9.8mm, Pitch 2.54mm, IPC High Density)
footprint NXP-SOT404_M (DPAK, 3-Leads, Body 10.3x9.8mm, Pitch 2.54mm, IPC Low Density)
pins: 1 G "gate", 3 S "source", 4 D "mounting base; connected to drain"

## BUK663R5-55C,118
designator Q?
N-Channel TrenchMOS Intermediate Level FET, 55 V, 120 A, 3-Pin SOT404, Tape and Reel; Manufacturer: NXP Semiconductors; PartNumber: BUK663R5-55C,118; Automotive Qualified: Y; Channel Type: N; ID [max] (A): 120; IDM [max] (A): 739; Packing: Tape & Reel; Qr [typ] (nC): 148; VDS [max] (V): 55; VGSth [typ] (V): 2.3; DatasheetVersion: Rev. 2; PackageVersion: 13-02-25, 02/2013; PackageReference: SOT404; PackageDescription: 3-Pin Plastic Single-ended Surface Mounted Package, Body 10 x 9.6 mm, Pitch 2.54 mm; Supplier 1: Digi-Key; Supplier Part Number 1: 568-7002-1-ND; Supplier 2: Digi-Key; Supplier Part Number 2: 568-7002-6-ND; Supplier 3: Digi-Key; Supplier Part Number 3: 568-7002-2-ND; Supplier 4: Mouser; Supplier Part Number 4: 771-BUK663R555C118; Mounting Technology: Surface Mount; ComponentLink1Description: Manufacturer URL; ComponentLink1URL: http://www.nxp.com/; ComponentLink2Description: Datasheet; ComponentLink2URL: http://www.nxp.com/documents/data_sheet/BUK663R5-55C.pdf; ComponentLink3Description: Package Specification; ComponentLink3URL: http://www.nxp.com/documents/outline_drawing/sot404_po.pdf
footprint NXP-SOT404_N (DPAK, 3-Leads, Body 10.3x9.8mm, Pitch 2.54mm, IPC Medium Density)
footprint NXP-SOT404_L (DPAK, 3-Leads, Body 10.3x9.8mm, Pitch 2.54mm, IPC High Density)
footprint NXP-SOT404_M (DPAK, 3-Leads, Body 10.3x9.8mm, Pitch 2.54mm, IPC Low Density)
pins: 1 G "gate", 3 S "source", 4 D "mounting base; connected to drain"

## BUK663R7-75C,118
designator Q?
N-Channel TrenchMOS FET, 75 V, 120 A, 3-Pin SOT404, Tape and Reel; Manufacturer: NXP Semiconductors; PartNumber: BUK663R7-75C,118; Automotive Qualified: Y; Channel Type: N; ID [max] (A): 120; IDM [max] (A): 713; Packing: Tape & Reel; Qr [typ] (nC): 218; VDS [max] (V): 75; VGSth [typ] (V): 2.3; DatasheetVersion: Rev. 2; PackageVersion: 13-02-25, 02/2013; PackageReference: SOT404; PackageDescription: 3-Pin Plastic Single-ended Surface Mounted Package, Body 10 x 9.6 mm, Pitch 2.54 mm; Supplier 1: Digi-Key; Supplier Part Number 1: 568-7003-2-ND; Supplier 2: Digi-Key; Supplier Part Number 2: 568-7003-1-ND; Supplier 3: Digi-Key; Supplier Part Number 3: 568-7003-6-ND; Supplier 4: Mouser; Supplier Part Number 4: 771-BUK663R775C118; Mounting Technology: Surface Mount; ComponentLink1Description: Manufacturer URL; ComponentLink1URL: http://www.nxp.com/; ComponentLink2Description: Datasheet; ComponentLink2URL: http://www.nxp.com/documents/data_sheet/BUK663R7-75C.pdf; ComponentLink3Description: Package Specification; ComponentLink3URL: http://www.nxp.com/documents/outline_drawing/sot404_po.pdf
footprint NXP-SOT404_N (DPAK, 3-Leads, Body 10.3x9.8mm, Pitch 2.54mm, IPC Medium Density)
footprint NXP-SOT404_L (DPAK, 3-Leads, Body 10.3x9.8mm, Pitch 2.54mm, IPC High Density)
footprint NXP-SOT404_M (DPAK, 3-Leads, Body 10.3x9.8mm, Pitch 2.54mm, IPC Low Density)
pins: 1 G "gate", 3 S "source", 4 D "mounting base; connected to drain"